# Altium schematic symbol library MicroProcessor.SchLib: 1 symbol
Pins are listed as number, name and electrical type; pins without a type are passive.

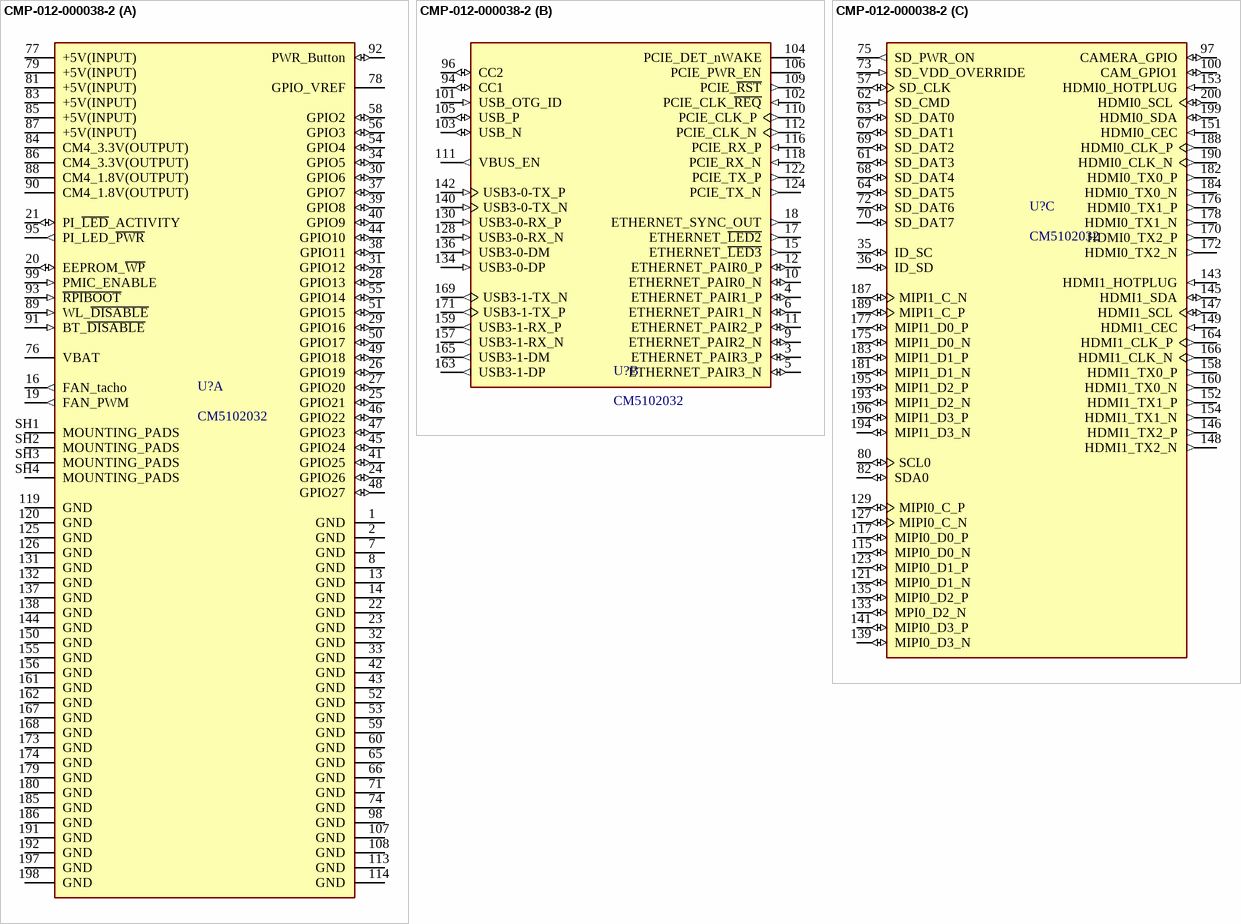
[diagram p0: symbol CMP-012-000038-2]

## CMP-012-000038-2
designator U?, comment CM5102032
Rasp Pi CM5102032 (COMPUTE MODULE CM5); Manufacturer: Raspberry Pi; Manufacturer Part Number: SC1589; Design Item ID: CM5; Distributor Link: https://www.digikey.com/en/products/detail/raspberry-pi/SC1589/25805582
footprint MODULE_CM4102008
footprint MODULE_CM5 (Raspberry Pi CM5 Footprint)
part A pins: 1 GND (power), 2 GND (power), 7 GND (power), 8 GND (power), 13 GND (power), 14 GND (power), 16 FAN_tacho (out), 19 FAN_PWM (out), 20 EEPROM_~{WP} (io), 21 PI_~{LED}_ACTIVITY (io), 22 GND (power), 23 GND (power), 24 GPIO26 (io), 25 GPIO21 (io), 26 GPIO19 (io), 27 GPIO20 (io), 28 GPIO13 (io), 29 GPIO16 (io), 30 GPIO6 (io), 31 GPIO12 (io), 32 GND (power), 33 GND (power), 34 GPIO5 (io), 37 GPIO7 (io), 38 GPIO11 (io), 39 GPIO8 (io), 40 GPIO9 (io), 41 GPIO25 (io), 42 GND (power), 43 GND (power), 44 GPIO10 (io), 45 GPIO24 (io), 46 GPIO22 (io), 47 GPIO23 (io), 48 GPIO27 (io), 49 GPIO18 (io), 50 GPIO17 (io), 51 GPIO15 (io), 52 GND (power), 53 GND (power), 54 GPIO4 (io), 55 GPIO14 (io), 56 GPIO3 (io), 58 GPIO2 (io), 59 GND (power), 60 GND (power), 65 GND (power), 66 GND (power), 71 GND (power), 74 GND (power), 76 VBAT (power) "RTC Battery", 77 +5V(INPUT) (power), 78 GPIO_VREF (power), 79 +5V(INPUT) (power), 81 +5V(INPUT) (power), 83 +5V(INPUT) (power), 84 CM4_3.3V(OUTPUT) (power), 85 +5V(INPUT) (power), 86 CM4_3.3V(OUTPUT) (power), 87 +5V(INPUT) (power), 88 CM4_1.8V(OUTPUT) (power), 89 WL_~{DISABLE} (in), 90 CM4_1.8V(OUTPUT) (power), 91 BT_~{DISABLE} (in), 92 PWR_Button (io), 93 ~{RPIBOOT} (in), 95 PI_LED_~{PWR} (out), 98 GND (power), 99 PMIC_ENABLE (in), 107 GND (power), 108 GND (power), 113 GND (power), 114 GND (power), 119 GND (power), 120 GND (power), 125 GND (power), 126 GND (power), 131 GND (power), 132 GND (power), 137 GND (power), 138 GND (power), 144 GND (power), 150 GND (power), 155 GND (power), 156 GND (power), 161 GND (power), 162 GND (power), 167 GND (power), 168 GND (power), 173 GND (power), 174 GND (power), 179 GND (power), 180 GND (power), 185 GND (power), 186 GND (power), 191 GND (power), 192 GND (power), 197 GND (power), 198 GND (power), SH1 MOUNTING_PADS, SH2 MOUNTING_PADS, SH3 MOUNTING_PADS, SH4 MOUNTING_PADS
part B pins: 3 ETHERNET_PAIR3_P (io), 4 ETHERNET_PAIR1_P (io), 5 ETHERNET_PAIR3_N (io), 6 ETHERNET_PAIR1_N (io), 9 ETHERNET_PAIR2_N (io), 10 ETHERNET_PAIR0_N (io), 11 ETHERNET_PAIR2_P (io), 12 ETHERNET_PAIR0_P (io), 15 ETHERNET_~{LED3} (out), 17 ETHERNET_~{LED2} (out), 18 ETHERNET_SYNC_OUT (out), 94 CC1 (io), 96 CC2 (io), 101 USB_OTG_ID (in), 102 PCIE_CLK_~{REQ} (in), 103 USB_N (io), 104 PCIE_DET_nWAKE, 105 USB_P (io), 106 PCIE_PWR_EN, 109 PCIE_~{RST} (out), 110 PCIE_CLK_P (out), 111 VBUS_EN (out), 112 PCIE_CLK_N (out), 116 PCIE_RX_P (in), 118 PCIE_RX_N (in), 122 PCIE_TX_P (out), 124 PCIE_TX_N (out), 128 USB3-0-RX_N (in) "May be P/N swapped", 130 USB3-0-RX_P (in) "May be P/N swapped.", 134 USB3-0-DP (in) "USB 2 signal.", 136 USB3-0-DM (in) "USB 2 signal.", 140 USB3-0-TX_N (in) "May be P/N swapped.", 142 USB3-0-TX_P (in) "May be P/N swapped.", 157 USB3-1-RX_N (out) "May be P/N swapped.", 159 USB3-1-RX_P (out) "May be P/N swapped.", 163 USB3-1-DP  (out) "USB 2 signal.", 165 USB3-1-DM (out) "USB 2 signal.", 169 USB3-1-TX_N (out) "May be P/N swapped.", 171 USB3-1-TX_P (out) "May be P/N swapped."
part C pins: 35 ID_SC (io), 36 ID_SD (io), 57 SD_CLK (io), 61 SD_DAT3 (io), 62 SD_CMD (in), 63 SD_DAT0 (io), 64 SD_DAT5 (io), 67 SD_DAT1 (io), 68 SD_DAT4 (io), 69 SD_DAT2 (io), 70 SD_DAT7 (io), 72 SD_DAT6 (io), 73 SD_VDD_OVERRIDE (in), 75 SD_PWR_ON (out), 80 SCL0 (io), 82 SDA0 (io), 97 CAMERA_GPIO (io), 100 CAM_GPIO1 (io), 115 MIPI0_D0_N (io), 117 MIPI0_D0_P (io), 121 MIPI0_D1_N (io), 123 MIPI0_D1_P (io), 127 MIPI0_C_N (io), 129 MIPI0_C_P (io), 133 MPI0_D2_N (io), 135 MIPI0_D2_P (io), 139 MIPI0_D3_N (io), 141 MIPI0_D3_P (io), 143 HDMI1_HOTPLUG (in), 145 HDMI1_SDA (io), 146 HDMI1_TX2_P (out), 147 HDMI1_SCL (io), 148 HDMI1_TX2_N (out), 149 HDMI1_CEC (in), 151 HDMI0_CEC (in), 152 HDMI1_TX1_P (out), 153 HDMI0_HOTPLUG (in), 154 HDMI1_TX1_N (out), 158 HDMI1_TX0_P (out), 160 HDMI1_TX0_N (out), 164 HDMI1_CLK_P (out), 166 HDMI1_CLK_N (out), 170 HDMI0_TX2_P (out), 172 HDMI0_TX2_N (out), 175 MIPI1_D0_N (io), 176 HDMI0_TX1_P (out), 177 MIPI1_D0_P (io), 178 HDMI0_TX1_N (out), 181 MIPI1_D1_N (io), 182 HDMI0_TX0_P (out), 183 MIPI1_D1_P (io), 184 HDMI0_TX0_N (out), 187 MIPI1_C_N (io), 188 HDMI0_CLK_P (out), 189 MIPI1_C_P (io), 190 HDMI0_CLK_N (out), 193 MIPI1_D2_N (io), 194 MIPI1_D3_N (io), 195 MIPI1_D2_P (io), 196 MIPI1_D3_P (io), 199 HDMI0_SDA (io), 200 HDMI0_SCL (io)